# Altium footprint library PCB - CONNECTOR - HIROSE - HIROSE MS-156HF.PCBLIB: 1 footprints
Each footprint in its own frame and in the unit in brackets; x right, y up, seen from the top. Pads: shape width x height; smd on the part's side, far side on the other; paste and mask are expansions set on the pad; w line width, h text height; cw(c..) or ccw(c..) is an arc to the next point about the centre after c.
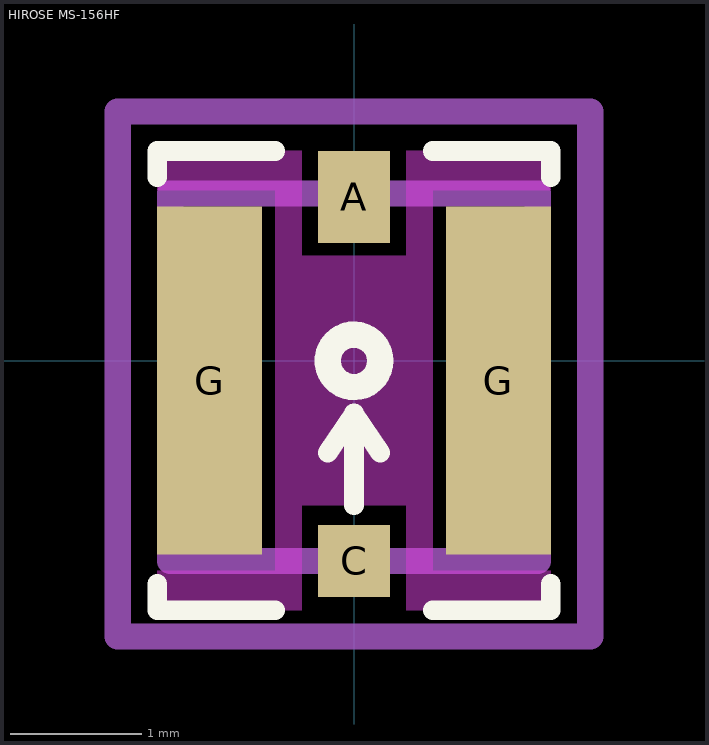
[diagram p0: the footprint, top view; thin cyan lines are the x and y axes]

## HIROSE MS-156HF [mm] "Coaxial Switch - 4mm Plug Dia Connector Receptacle, Female Socket 50 Ohms Surface Mount Solder"
height 1.6
pads (4):
  rect 0.55x0.7 smd paste-2539.97: A(0,1.25)
  rect 0.55x0.55 smd paste-2539.97: C(0,-1.525)
  rect 0.8x2.65 smd paste+0: G(-1.1,-0.15) G(1.1,-0.15)
Top Layer keep-out:
  region: -1.5,1.6 -0.4,1.6 -0.4,0.8 0.4,0.8 0.4,1.6 1.5,1.6 1.5,1.3 0.6,1.3 0.6,0 -0.6,0 -0.6,1.3 -1.5,1.3
  region: -1.5,-1.9 -0.4,-1.9 -0.4,-1.1 0.4,-1.1 0.4,-1.9 1.5,-1.9 1.5,-1.6 0.6,-1.6 0.6,0 -0.6,0 -0.6,-1.6 -1.5,-1.6
Top Overlay:
  circle w0.2: c0,0 r0.2
  lines w0.15: -1.5,-1.7 -1.5,-1.9 -0.6,-1.9 ; -1.5,1.4 -1.5,1.6 -0.6,1.6 ; -0.2,-0.7 0,-0.4 ; 0,-1.1 0,-0.4 ; 0.2,-0.7 0,-0.4 ; 0.6,-1.9 1.5,-1.9 1.5,-1.7 ; 0.6,1.6 1.5,1.6 1.5,1.4
Top Paste:
  rectangle: -0.275,-1.55 0.275,-1.25
  rectangle: -0.275,0.9 0.275,1.35
Top Solder:
  region: -1.5,1.6 -0.375,1.6 -0.375,0.8 0.375,0.8 0.375,1.6 1.5,1.6 1.5,1.275 0.6,1.275 0.6,0 -0.6,0 -0.6,1.275 -1.5,1.275
  region: -1.5,-1.9 -0.375,-1.9 -0.375,-1.15 0.375,-1.15 0.375,-1.9 1.5,-1.9 1.5,-1.575 0.6,-1.575 0.6,0 -0.6,0 -0.6,-1.575 -1.5,-1.575
Top Assembly:
  lines w0.2: -1.4,-1.525 1.4,-1.525 1.4,1.275 -1.4,1.275 -1.4,-1.525
Top Courtyard (Mech15):
  lines w0.2: -1.8,-2.1 1.8,-2.1 1.8,1.9 -1.8,1.9 -1.8,-2.1
3D body "Hirose MS-156HF.step": height 2, standoff 0, extent -1.375,-1.525 1.375,1.3